# Altium schematic symbol library CC26XX_7X7_DIFF_Library.SchLib: 16 symbols
Pins are listed as number, name and electrical type; pins without a type are passive.

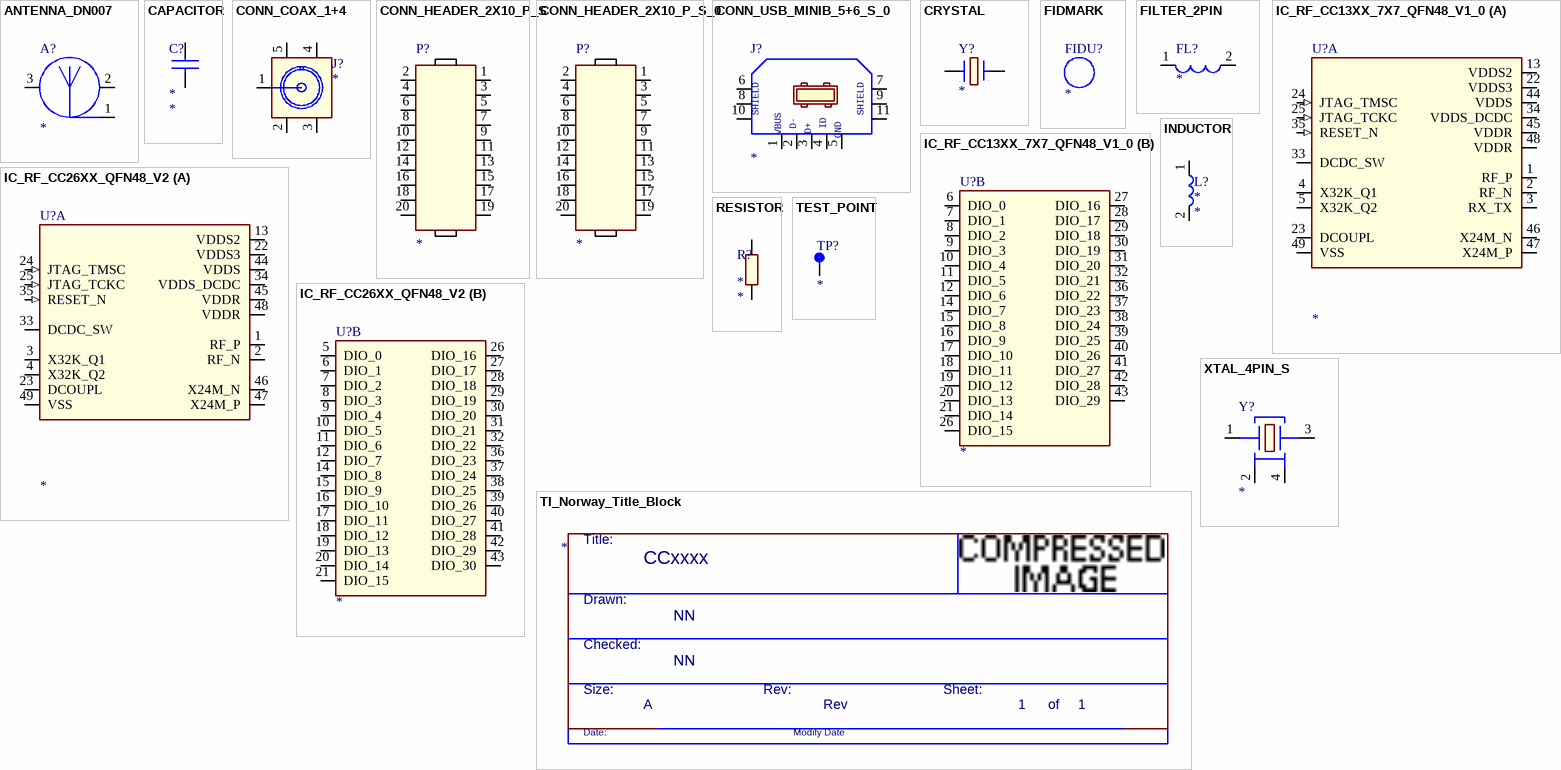
[diagram p0: symbols ANTENNA_DN007 to XTAL_4PIN_S]

## ANTENNA_DN007
designator A?
Designed by: Artur Bielinski; Design date: 2011-09-19
footprint ANTENNA_DN007AN
pins: 1 FEED_1, 2 GND_2, 3 GND_3

## CAPACITOR
designator C?
TC2: 0; MAX_TEMP: CTMAX; SLOPE: CSMAX; DIST: FLAT; PSpiceTemplate: C^@REFDES %1 %2 ?TOLERANCE|C^@REFDES| @VALUE ?IC/IC=@IC/ TC=@TC1,@TC2 ?TOLERANCE|\n.model C^@REFDES CAP C=1 DEV=@TOLERANCE%|; KNEE: CBMAX; CURRENT: CIMAX; VOLTAGE: CMAX; TC1: 0; Value: *
simulation model CAPACITOR
footprint CAPC0402(1005)60_L (Chip Capacitor, Body 1.0x0.5mm, Height 0.6mm, IPC High Density)
footprint CAPC0402(1005)60_M (Chip Capacitor, Body 1.0x0.5mm, Height 0.6mm, IPC Low Density)
footprint CAPC0402(1005)60_N (Chip Capacitor, Body 1.0x0.5mm, Height 0.6mm, IPC Medium Density)
footprint CAPC0603(1608)100_L (Chip Capacitor, Body 1.6x0.8mm, Height 1.0mm, IPC High Density)
footprint CAPC0603(1608)100_M (Chip Capacitor, Body 1.6x0.8mm, Height 1.0mm, IPC Low Density)
footprint CAPC0603(1608)100_N (Chip Capacitor, Body 1.6x0.8mm, Height 1.0mm, IPC Medium Density)
pins: 1, 2
1 alternate drawing of the same symbol

## CONN_COAX_1+4
designator J?
footprint HUSTSAN_SMA10V21TGGAN
footprint SMA END LAUNCH JACK RECEPTACLE (SMA Connector - End Launch Jack Receptacle)
pins: 1, 2 (power), 3 (power), 4 (power), 5 (power)

## CONN_HEADER_2X10_P_S
designator P?
pins: 1, 2, 3, 4, 5, 6, 7, 8, 9, 10, 11, 12, 13, 14, 15, 16, 17, 18, 19, 20

## CONN_HEADER_2X10_P_S_0
designator P?
pins: 1, 2, 3, 4, 5, 6, 7, 8, 9, 10, 11, 12, 13, 14, 15, 16, 17, 18, 19, 20

## CONN_USB_MINIB_5+6_S_0
designator J?
pins: 1 VBUS (power), 2 D-, 3 D+, 4 ID, 5 GND (power), 6 GND (power), 7 GND (power), 8 GND (power), 9 GND (power), 10 GND (power), 11 GND (power)
text: SHIELD

## CRYSTAL
designator Y?
footprint XTAL_FC-135N
pins: 1, 2

## FIDMARK
designator FIDU?
footprint FIDMARK
pins: 1

## FILTER_2PIN
designator FL?
footprint FIL_BLM18HE152SN1DL
pins: 1, 2

## IC_RF_CC13XX_7X7_QFN48_V1_0
designator U?
SWAP_INFO: (S1+S2); SPLIT_INST: TRUE; Designed_By: Artur Bielinski; Design_Date: 2013-10-23
footprint QFNFC50P700X700X80-49CL
footprint QFN50P700X700X100_HS-49N (QFN, 48-Leads, Body 7.00x7.00mm, Pitch 0.50mm, Thermal Pad 5.15x5.10mm, IPC Medium Density)
part A pins: 1 RF_P, 2 RF_N, 3 RX_TX (io), 4 X32K_Q1, 5 X32K_Q2, 13 VDDS2 (power), 22 VDDS3 (power), 23 DCOUPL, 24 JTAG_TMSC (in), 25 JTAG_TCKC (in), 33 DCDC_SW (power), 34 VDDS_DCDC (power), 35 RESET_N (in), 44 VDDS (power), 45 VDDR (power), 46 X24M_N, 47 X24M_P, 48 VDDR (power), 49 VSS (power)
part B pins: 6 DIO_0 (io), 7 DIO_1 (io), 8 DIO_2 (io), 9 DIO_3 (io), 10 DIO_4 (io), 11 DIO_5 (io), 12 DIO_6 (io), 14 DIO_7 (io), 15 DIO_8 (io), 16 DIO_9 (io), 17 DIO_10 (io), 18 DIO_11 (io), 19 DIO_12 (io), 20 DIO_13 (io), 21 DIO_14 (io), 26 DIO_15 (io), 27 DIO_16 (io), 28 DIO_17 (io), 29 DIO_18 (io), 30 DIO_19 (io), 31 DIO_20 (io), 32 DIO_21 (io), 36 DIO_22 (io), 37 DIO_23 (io), 38 DIO_24 (io), 39 DIO_25 (io), 40 DIO_26 (io), 41 DIO_27 (io), 42 DIO_28 (io), 43 DIO_29 (io)

## IC_RF_CC26XX_QFN48_V2
designator U?
Designed_By: Artur Bielinski; SPLIT_INST: TRUE; SWAP_INFO: (S1+S2); Design_Date: 2013-02-14
footprint QFN50P700X700X100_HS-49N_BIG_VIAS (QFN, 48-Leads, Body 7.00x7.00mm, Pitch 0.50mm, Thermal Pad 5.15x5.10mm, IPC Medium Density)
footprint QFNFC50P700X700X80-49CL
part A pins: 1 RF_P, 2 RF_N, 3 X32K_Q1, 4 X32K_Q2, 13 VDDS2 (power), 22 VDDS3 (power), 23 DCOUPL, 24 JTAG_TMSC (in), 25 JTAG_TCKC (in), 33 DCDC_SW (power), 34 VDDS_DCDC (power), 35 RESET_N (in), 44 VDDS (power), 45 VDDR (power), 46 X24M_N, 47 X24M_P, 48 VDDR (power), 49 VSS (power)
part B pins: 5 DIO_0 (io), 6 DIO_1 (io), 7 DIO_2 (io), 8 DIO_3 (io), 9 DIO_4 (io), 10 DIO_5 (io), 11 DIO_6 (io), 12 DIO_7 (io), 14 DIO_8 (io), 15 DIO_9 (io), 16 DIO_10 (io), 17 DIO_11 (io), 18 DIO_12 (io), 19 DIO_13 (io), 20 DIO_14 (io), 21 DIO_15 (io), 26 DIO_16 (io), 27 DIO_17 (io), 28 DIO_18 (io), 29 DIO_19 (io), 30 DIO_20 (io), 31 DIO_21 (io), 32 DIO_22 (io), 36 DIO_23 (io), 37 DIO_24 (io), 38 DIO_25 (io), 39 DIO_26 (io), 40 DIO_27 (io), 41 DIO_28 (io), 42 DIO_29 (io), 43 DIO_30 (io)

## INDUCTOR
designator L?
DIST: FLAT; DIELECTRIC: DSMAX; PSpiceTemplate: L^@REFDES %1 %2 ?TOLERANCE|L^@REFDES| @VALUE ?IC/IC=@IC/ ?TOLERANCE|\n.model l^@REFDES IND L=1 DEV=@TOLERANCE%|; Current: LMAX; Value: *
simulation model INDUCTOR
footprint CAPC0402(1005)60_L (Chip Capacitor, Body 1.0x0.5mm, Height 0.6mm, IPC High Density)
footprint CAPC0402(1005)60_M (Chip Capacitor, Body 1.0x0.5mm, Height 0.6mm, IPC Low Density)
footprint CAPC0402(1005)60_N (Chip Capacitor, Body 1.0x0.5mm, Height 0.6mm, IPC Medium Density)
footprint CAPC0805(2012)75_L (Chip Capacitor, Body 2.0x1.2mm, Height 0.75mm, IPC High Density)
footprint CAPC0805(2012)75_M (Chip Capacitor, Body 2.0x1.2mm, Height 0.75mm, IPC Low Density)
footprint CAPC0805(2012)75_N (Chip Capacitor, Body 2.0x1.2mm, Height 0.75mm, IPC Medium Density)
footprint INDC1005X60L
footprint INDC2012X150L
pins: 1, 2

## RESISTOR
designator R?
PSpiceTemplate: R^@REFDES %1 %2 ?TOLERANCE|R^@REFDES| @VALUE TC=@TC1,@TC2 ?TOLERANCE|\n.model R^@REFDES RES R=1 DEV=@TOLERANCE%|; VOLTAGE: RVMAX; DIST: FLAT; MAX_TEMP: RTMAX; TC1: 0; POWER: RMAX; TC2: 0; Value: *
simulation model RESISTOR
footprint RESC1005X40L
pins: 1, 2
1 alternate drawing of the same symbol

## TEST_POINT
designator TP?
footprint TP150_90H
pins: 1

## TI_Norway_Title_Block
designator *  Title: CCxxxx  Page Number: 1  RevCode: Rev  Page Size: A  Design Modify Date: Modify Date  Check name: NN  (graphical)
Page Count: 1; Designer name: NN
text: Title:; Drawn:; Checked:; Size:; Rev:; Sheet:; of; Date:

## XTAL_4PIN_S
designator Y?
footprint Crystal 4-SMD 5.0x3.2mm
footprint OSCCC250X320X80-4L
pins: 1, 2 (power), 3, 4 (power)